# EAGLE library part AT42QT2120 (library gee_s)
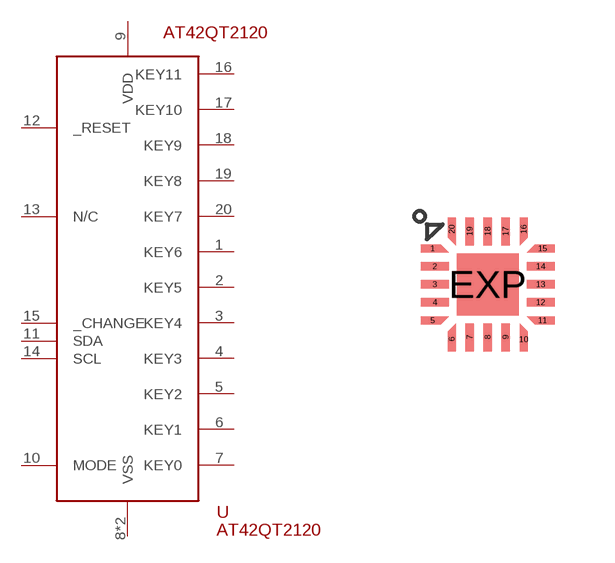
[diagram p37: symbol with the pads of AT42QT2120-MMH; footprint AT42QT2120-MMH]

Designator prefix -

## AT42QT2120  [AT42QT2120-MMH]
1  KEY6
2  KEY5
3  KEY4
4  KEY3
5  KEY2
6  KEY1
7  KEY0
8  VSS
9  VDD
10  MODE
11  SDA
12  _RESET
13  N/C
14  SCL
15  _CHANGE
16  KEY11
17  KEY10
18  KEY9
19  KEY8
20  KEY7
EXP  VSS

## Footprint AT42QT2120-MMH (pad centres in mm)
smd 0.2 x 0.2: 1 -1.375,0.9; 5 -1.375,-0.9; 6 -0.9,-1.375; 10 0.9,-1.375; 11 1.375,-0.9; 15 1.375,0.9; 16 0.9,1.375; 20 -0.9,1.375
smd 0.7 x 0.22: 2 -1.325,0.45; 3 -1.325,0; 4 -1.325,-0.45; 12 1.325,-0.45; 13 1.325,0; 14 1.325,0.45
smd 0.22 x 0.7: 7 -0.45,-1.325; 8 0,-1.325; 9 0.45,-1.325; 17 0.45,1.325; 18 0,1.325; 19 -0.45,1.325
smd 1.55 x 1.55: EXP 0,0